# EAGLE library part RJ45-JACK (library trainlib)
Mod. Jack, Right Angle, 8 posiotion, 8 contatcs RJ45 Source: GLX-S-88M.pdf
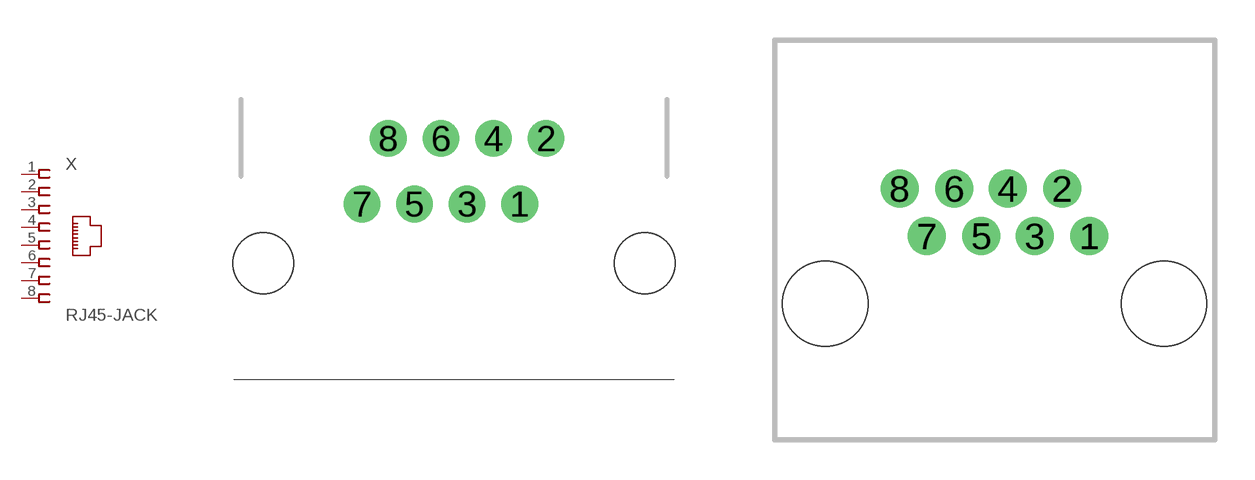
[diagram p7: symbol with the pads of RJ45-KY-942; footprints RJ45-KY-942, RJ45-PULSE-E5J88]

Designator prefix X

## RJ45-JACK (OC_FARNELL: unknown; OC_NEWARK: unknown)  [RJ45-KY-942]
1  1  pas
2  2  pas
3  3  pas
4  4  pas
5  5  pas
6  6  pas
7  7  pas
8  8  pas

## RJ45-JACKRJ45-PULSE-E5J00  [RJ45-PULSE-E5J88]
Pads as for RJ45-KY-942

## Footprint RJ45-KY-942 (pad centres in mm)
Mod. Jack, Right Angle, 8 posiotion, 8 contatcs RJ45 Keystone electronics, model Nr 942. Source: 942.pdf https://www.digikey.com/product-detail/en/942/36-942-ND/5638364
drill 0.9 pad 1.422: 1 2.55,2.3; 2 3.57,4.84; 3 0.51,2.3; 4 1.53,4.84; 5 -1.53,2.3; 6 -0.51,4.84; 7 -3.57,2.3; 8 -2.55,4.84
hole 2.362 at 7.4,0
hole 2.362 at -7.4,0

## Footprint RJ45-PULSE-E5J88 (pad centres in mm)
Mod. Jack, Right Angle, 8 posiotion, 8 contatcs RJ45 Source: GLX-S-88M.pdf
drill 0.9 pad 1.422: 1 3.555,2.54; 2 2.535,4.32; 3 1.515,2.54; 4 0.495,4.32; 5 -0.495,2.54; 6 -1.515,4.32; 7 -2.535,2.54; 8 -3.555,4.32
hole 3.2 at 6.35,0
hole 3.2 at -6.35,0